# EAGLE library part MP2307 (library HarpyFC_Library)
MP2307 Step-Down Converter 3A Continuous Output Current 4A Peak Output Current Wide 4.75V to 23V Operationg Input Range Output Adjustable from 0.925V to 20V Up to 95% efficiency Fixed 340kHz Frequency Datasheet : https://cdn-shop.adafruit.com/datasheets/MP2307_r1.9.pdf
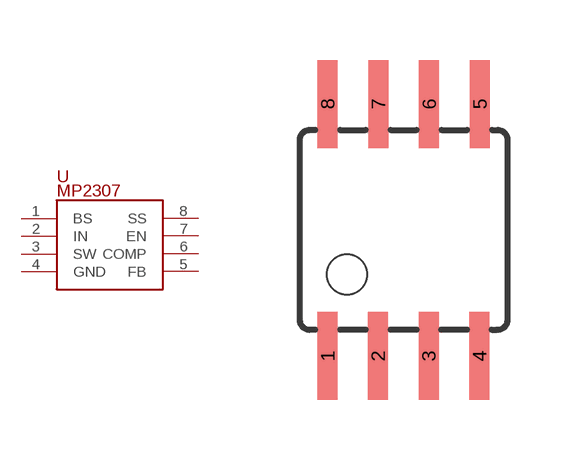
[diagram p2: symbol with the pads of SOIC8; footprint SOIC8]

Designator prefix U

## MP2307  [SOIC8]
1  BS
2  IN
3  SW
4  GND
5  FB
6  COMP
7  EN
8  SS

## Footprint SOIC8 (pad centres in mm)
Wide Plastic Gull Wing Small Outline Package
smd 0.5 x 2.2: 1 -1.905,-3.154; 2 -0.645,-3.154; 3 0.625,-3.154; 4 1.895,-3.154; 5 1.905,3.154; 6 0.635,3.154; 7 -0.635,3.154; 8 -1.905,3.154